# Altium footprint library Connector_Molex.PcbLib: 815 footprints (part 51 of 51)
Each footprint in its own frame and in the unit in brackets; x right, y up, seen from the top. Pads: shape width x height; smd on the part's side, far side on the other; paste and mask are expansions set on the pad; w line width, h text height; cw(c..) or ccw(c..) is an arc to the next point about the centre after c.
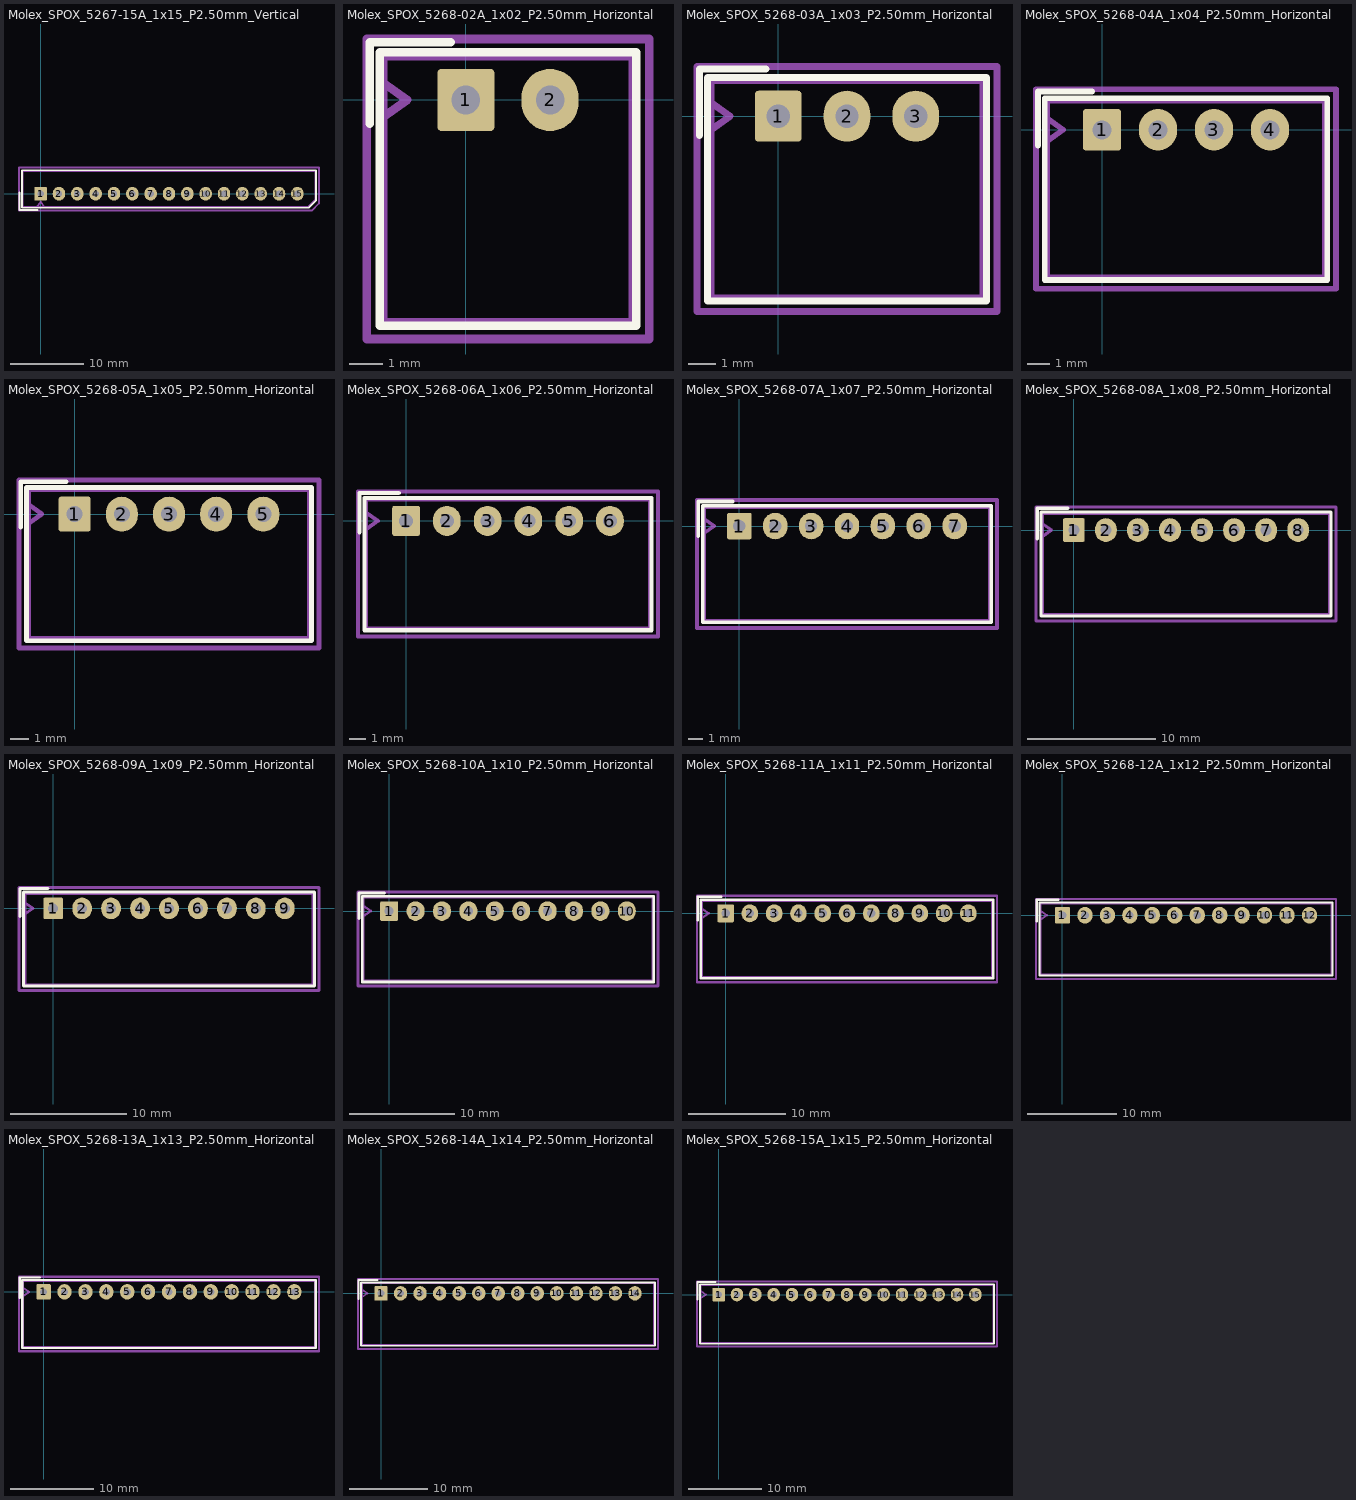
[diagram p50: the footprints below, top view; thin cyan lines are the x and y axes]

## Molex_SPOX_5267-15A_1x15_P2.50mm_Vertical [mm]
pads (15):
  rrect15% 1.7x1.85 hole 0.85: 1(0,0)
  rrect100% 1.7x1.85 hole 0.85: 2(2.5,0) 3(5,0) 4(7.5,0) 5(10,0) 6(12.5,0) 7(15,0) 8(17.5,0) 9(20,0) 10(22.5,0) 11(25,0) 12(27.5,0) 13(30,0) 14(32.5,0) 15(35,0)
F.SilkS:
  lines w0.254: -2.86,0.2 -2.86,-2.21 -0.45,-2.21 ; -2.56,-1.91 36.56,-1.91 37.56,-0.91 37.56,3.21 -2.56,3.21 -2.56,-1.91
Top Assembly:
  lines w0.254: -0.5,-1.8 0,-1.093 0.5,-1.8 ; -2.45,-1.8 36.45,-1.8 37.45,-0.8 37.45,3.1 -2.45,3.1 -2.45,-1.8
  text "'.Designator'" at 13.453,1.56 h1
Top Courtyard:
  lines w0.254: -2.95,-2.31 36.95,-2.31 37.95,-1.31 37.95,3.6 -2.95,3.6 -2.95,-2.31
Top Designator:
  text ".Designator" at 9.882,0.137 h1.52

## Molex_SPOX_5268-02A_1x02_P2.50mm_Horizontal [mm]
pads (2):
  rrect15% 1.7x1.85 hole 0.85: 1(0,0)
  rrect100% 1.7x1.85 hole 0.85: 2(2.5,0)
F.SilkS:
  lines w0.254: -2.86,-0.7 -2.86,1.71 -0.45,1.71 ; -2.56,-6.71 5.06,-6.71 5.06,1.41 -2.56,1.41 -2.56,-6.71
Top Assembly:
  lines w0.254: -2.45,-0.5 -1.743,0 -2.45,0.5 ; -2.45,-6.6 4.95,-6.6 4.95,1.3 -2.45,1.3 -2.45,-6.6
  text "'.Designator'" at -2.797,-6.74 h1
Top Courtyard:
  lines w0.254: -2.95,-7.1 5.45,-7.1 5.45,1.81 -2.95,1.81 -2.95,-7.1
Top Designator:
  text ".Designator" at -6.368,-3.153 h1.52

## Molex_SPOX_5268-03A_1x03_P2.50mm_Horizontal [mm]
pads (3):
  rrect15% 1.7x1.85 hole 0.85: 1(0,0)
  rrect100% 1.7x1.85 hole 0.85: 2(2.5,0) 3(5,0)
F.SilkS:
  lines w0.254: -2.86,-0.7 -2.86,1.71 -0.45,1.71 ; -2.56,-6.71 7.56,-6.71 7.56,1.41 -2.56,1.41 -2.56,-6.71
Top Assembly:
  lines w0.254: -2.45,-0.5 -1.743,0 -2.45,0.5 ; -2.45,-6.6 7.45,-6.6 7.45,1.3 -2.45,1.3 -2.45,-6.6
  text "'.Designator'" at -1.547,-6.74 h1
Top Courtyard:
  lines w0.254: -2.95,-7.1 7.95,-7.1 7.95,1.81 -2.95,1.81 -2.95,-7.1
Top Designator:
  text ".Designator" at -5.118,-3.153 h1.52

## Molex_SPOX_5268-04A_1x04_P2.50mm_Horizontal [mm]
pads (4):
  rrect15% 1.7x1.85 hole 0.85: 1(0,0)
  rrect100% 1.7x1.85 hole 0.85: 2(2.5,0) 3(5,0) 4(7.5,0)
F.SilkS:
  lines w0.254: -2.86,-0.7 -2.86,1.71 -0.45,1.71 ; -2.56,-6.71 10.06,-6.71 10.06,1.41 -2.56,1.41 -2.56,-6.71
Top Assembly:
  lines w0.254: -2.45,-0.5 -1.743,0 -2.45,0.5 ; -2.45,-6.6 9.95,-6.6 9.95,1.3 -2.45,1.3 -2.45,-6.6
  text "'.Designator'" at -0.297,-6.74 h1
Top Courtyard:
  lines w0.254: -2.95,-7.1 10.45,-7.1 10.45,1.81 -2.95,1.81 -2.95,-7.1
Top Designator:
  text ".Designator" at -3.868,-3.153 h1.52

## Molex_SPOX_5268-05A_1x05_P2.50mm_Horizontal [mm]
pads (5):
  rrect15% 1.7x1.85 hole 0.85: 1(0,0)
  rrect100% 1.7x1.85 hole 0.85: 2(2.5,0) 3(5,0) 4(7.5,0) 5(10,0)
F.SilkS:
  lines w0.254: -2.86,-0.7 -2.86,1.71 -0.45,1.71 ; -2.56,-6.71 12.56,-6.71 12.56,1.41 -2.56,1.41 -2.56,-6.71
Top Assembly:
  lines w0.254: -2.45,-0.5 -1.743,0 -2.45,0.5 ; -2.45,-6.6 12.45,-6.6 12.45,1.3 -2.45,1.3 -2.45,-6.6
  text "'.Designator'" at 0.953,-6.74 h1
Top Courtyard:
  lines w0.254: -2.95,-7.1 12.95,-7.1 12.95,1.81 -2.95,1.81 -2.95,-7.1
Top Designator:
  text ".Designator" at -2.618,-3.153 h1.52

## Molex_SPOX_5268-06A_1x06_P2.50mm_Horizontal [mm]
pads (6):
  rrect15% 1.7x1.85 hole 0.85: 1(0,0)
  rrect100% 1.7x1.85 hole 0.85: 2(2.5,0) 3(5,0) 4(7.5,0) 5(10,0) 6(12.5,0)
F.SilkS:
  lines w0.254: -2.86,-0.7 -2.86,1.71 -0.45,1.71 ; -2.56,-6.71 15.06,-6.71 15.06,1.41 -2.56,1.41 -2.56,-6.71
Top Assembly:
  lines w0.254: -2.45,-0.5 -1.743,0 -2.45,0.5 ; -2.45,-6.6 14.95,-6.6 14.95,1.3 -2.45,1.3 -2.45,-6.6
  text "'.Designator'" at 2.203,-6.74 h1
Top Courtyard:
  lines w0.254: -2.95,-7.1 15.45,-7.1 15.45,1.81 -2.95,1.81 -2.95,-7.1
Top Designator:
  text ".Designator" at -1.368,-3.153 h1.52

## Molex_SPOX_5268-07A_1x07_P2.50mm_Horizontal [mm]
pads (7):
  rrect15% 1.7x1.85 hole 0.85: 1(0,0)
  rrect100% 1.7x1.85 hole 0.85: 2(2.5,0) 3(5,0) 4(7.5,0) 5(10,0) 6(12.5,0) 7(15,0)
F.SilkS:
  lines w0.254: -2.86,-0.7 -2.86,1.71 -0.45,1.71 ; -2.56,-6.71 17.56,-6.71 17.56,1.41 -2.56,1.41 -2.56,-6.71
Top Assembly:
  lines w0.254: -2.45,-0.5 -1.743,0 -2.45,0.5 ; -2.45,-6.6 17.45,-6.6 17.45,1.3 -2.45,1.3 -2.45,-6.6
  text "'.Designator'" at 3.453,-6.74 h1
Top Courtyard:
  lines w0.254: -2.95,-7.1 17.95,-7.1 17.95,1.81 -2.95,1.81 -2.95,-7.1
Top Designator:
  text ".Designator" at -0.118,-3.153 h1.52

## Molex_SPOX_5268-08A_1x08_P2.50mm_Horizontal [mm]
pads (8):
  rrect15% 1.7x1.85 hole 0.85: 1(0,0)
  rrect100% 1.7x1.85 hole 0.85: 2(2.5,0) 3(5,0) 4(7.5,0) 5(10,0) 6(12.5,0) 7(15,0) 8(17.5,0)
F.SilkS:
  lines w0.254: -2.86,-0.7 -2.86,1.71 -0.45,1.71 ; -2.56,-6.71 20.06,-6.71 20.06,1.41 -2.56,1.41 -2.56,-6.71
Top Assembly:
  lines w0.254: -2.45,-0.5 -1.743,0 -2.45,0.5 ; -2.45,-6.6 19.95,-6.6 19.95,1.3 -2.45,1.3 -2.45,-6.6
  text "'.Designator'" at 4.703,-6.74 h1
Top Courtyard:
  lines w0.254: -2.95,-7.1 20.45,-7.1 20.45,1.81 -2.95,1.81 -2.95,-7.1
Top Designator:
  text ".Designator" at 1.132,-3.153 h1.52

## Molex_SPOX_5268-09A_1x09_P2.50mm_Horizontal [mm]
pads (9):
  rrect15% 1.7x1.85 hole 0.85: 1(0,0)
  rrect100% 1.7x1.85 hole 0.85: 2(2.5,0) 3(5,0) 4(7.5,0) 5(10,0) 6(12.5,0) 7(15,0) 8(17.5,0) 9(20,0)
F.SilkS:
  lines w0.254: -2.86,-0.7 -2.86,1.71 -0.45,1.71 ; -2.56,-6.71 22.56,-6.71 22.56,1.41 -2.56,1.41 -2.56,-6.71
Top Assembly:
  lines w0.254: -2.45,-0.5 -1.743,0 -2.45,0.5 ; -2.45,-6.6 22.45,-6.6 22.45,1.3 -2.45,1.3 -2.45,-6.6
  text "'.Designator'" at 5.953,-6.74 h1
Top Courtyard:
  lines w0.254: -2.95,-7.1 22.95,-7.1 22.95,1.81 -2.95,1.81 -2.95,-7.1
Top Designator:
  text ".Designator" at 2.382,-3.153 h1.52

## Molex_SPOX_5268-10A_1x10_P2.50mm_Horizontal [mm]
pads (10):
  rrect15% 1.7x1.85 hole 0.85: 1(0,0)
  rrect100% 1.7x1.85 hole 0.85: 2(2.5,0) 3(5,0) 4(7.5,0) 5(10,0) 6(12.5,0) 7(15,0) 8(17.5,0) 9(20,0) 10(22.5,0)
F.SilkS:
  lines w0.254: -2.86,-0.7 -2.86,1.71 -0.45,1.71 ; -2.56,-6.71 25.06,-6.71 25.06,1.41 -2.56,1.41 -2.56,-6.71
Top Assembly:
  lines w0.254: -2.45,-0.5 -1.743,0 -2.45,0.5 ; -2.45,-6.6 24.95,-6.6 24.95,1.3 -2.45,1.3 -2.45,-6.6
  text "'.Designator'" at 7.203,-6.74 h1
Top Courtyard:
  lines w0.254: -2.95,-7.1 25.45,-7.1 25.45,1.81 -2.95,1.81 -2.95,-7.1
Top Designator:
  text ".Designator" at 3.632,-3.153 h1.52

## Molex_SPOX_5268-11A_1x11_P2.50mm_Horizontal [mm]
pads (11):
  rrect15% 1.7x1.85 hole 0.85: 1(0,0)
  rrect100% 1.7x1.85 hole 0.85: 2(2.5,0) 3(5,0) 4(7.5,0) 5(10,0) 6(12.5,0) 7(15,0) 8(17.5,0) 9(20,0) 10(22.5,0) 11(25,0)
F.SilkS:
  lines w0.254: -2.86,-0.7 -2.86,1.71 -0.45,1.71 ; -2.56,-6.71 -2.56,1.41 27.56,1.41 27.56,-6.71 -2.56,-6.71
Top Assembly:
  lines w0.254: -2.45,-0.5 -1.743,0 -2.45,0.5 ; -2.45,-6.6 -2.45,1.3 27.45,1.3 27.45,-6.6 -2.45,-6.6
  text "'.Designator'" at 8.453,-6.74 h1
Top Courtyard:
  lines w0.254: -2.95,-7.1 -2.95,1.81 27.95,1.81 27.95,-7.1 -2.95,-7.1
Top Designator:
  text ".Designator" at 4.882,-3.153 h1.52

## Molex_SPOX_5268-12A_1x12_P2.50mm_Horizontal [mm]
pads (12):
  rrect15% 1.7x1.85 hole 0.85: 1(0,0)
  rrect100% 1.7x1.85 hole 0.85: 2(2.5,0) 3(5,0) 4(7.5,0) 5(10,0) 6(12.5,0) 7(15,0) 8(17.5,0) 9(20,0) 10(22.5,0) 11(25,0) 12(27.5,0)
F.SilkS:
  lines w0.254: -2.86,-0.7 -2.86,1.71 -0.45,1.71 ; -2.56,-6.71 30.06,-6.71 30.06,1.41 -2.56,1.41 -2.56,-6.71
Top Assembly:
  lines w0.254: -2.45,-0.5 -1.743,0 -2.45,0.5 ; -2.45,-6.6 29.95,-6.6 29.95,1.3 -2.45,1.3 -2.45,-6.6
  text "'.Designator'" at 9.703,-6.74 h1
Top Courtyard:
  lines w0.254: -2.95,-7.1 30.45,-7.1 30.45,1.81 -2.95,1.81 -2.95,-7.1
Top Designator:
  text ".Designator" at 6.132,-3.153 h1.52

## Molex_SPOX_5268-13A_1x13_P2.50mm_Horizontal [mm]
pads (13):
  rrect15% 1.7x1.85 hole 0.85: 1(0,0)
  rrect100% 1.7x1.85 hole 0.85: 2(2.5,0) 3(5,0) 4(7.5,0) 5(10,0) 6(12.5,0) 7(15,0) 8(17.5,0) 9(20,0) 10(22.5,0) 11(25,0) 12(27.5,0) 13(30,0)
F.SilkS:
  lines w0.254: -2.86,-0.7 -2.86,1.71 -0.45,1.71 ; -2.56,-6.71 32.56,-6.71 32.56,1.41 -2.56,1.41 -2.56,-6.71
Top Assembly:
  lines w0.254: -2.45,-0.5 -1.743,0 -2.45,0.5 ; -2.45,-6.6 32.45,-6.6 32.45,1.3 -2.45,1.3 -2.45,-6.6
  text "'.Designator'" at 10.953,-6.74 h1
Top Courtyard:
  lines w0.254: -2.95,-7.1 32.95,-7.1 32.95,1.81 -2.95,1.81 -2.95,-7.1
Top Designator:
  text ".Designator" at 7.382,-3.153 h1.52

## Molex_SPOX_5268-14A_1x14_P2.50mm_Horizontal [mm]
pads (14):
  rrect15% 1.7x1.85 hole 0.85: 1(0,0)
  rrect100% 1.7x1.85 hole 0.85: 2(2.5,0) 3(5,0) 4(7.5,0) 5(10,0) 6(12.5,0) 7(15,0) 8(17.5,0) 9(20,0) 10(22.5,0) 11(25,0) 12(27.5,0) 13(30,0) 14(32.5,0)
F.SilkS:
  lines w0.254: -2.86,-0.7 -2.86,1.71 -0.45,1.71 ; -2.56,-6.71 35.06,-6.71 35.06,1.41 -2.56,1.41 -2.56,-6.71
Top Assembly:
  lines w0.254: -2.45,-0.5 -1.743,0 -2.45,0.5 ; -2.45,-6.6 34.95,-6.6 34.95,1.3 -2.45,1.3 -2.45,-6.6
  text "'.Designator'" at 12.203,-6.74 h1
Top Courtyard:
  lines w0.254: -2.95,-7.1 35.45,-7.1 35.45,1.81 -2.95,1.81 -2.95,-7.1
Top Designator:
  text ".Designator" at 8.632,-3.153 h1.52

## Molex_SPOX_5268-15A_1x15_P2.50mm_Horizontal [mm]
pads (15):
  rrect15% 1.7x1.85 hole 0.85: 1(0,0)
  rrect100% 1.7x1.85 hole 0.85: 2(2.5,0) 3(5,0) 4(7.5,0) 5(10,0) 6(12.5,0) 7(15,0) 8(17.5,0) 9(20,0) 10(22.5,0) 11(25,0) 12(27.5,0) 13(30,0) 14(32.5,0) 15(35,0)
F.SilkS:
  lines w0.254: -2.86,-0.7 -2.86,1.71 -0.45,1.71 ; -2.56,-6.71 37.56,-6.71 37.56,1.41 -2.56,1.41 -2.56,-6.71
Top Assembly:
  lines w0.254: -2.45,-0.5 -1.743,0 -2.45,0.5 ; -2.45,-6.6 37.45,-6.6 37.45,1.3 -2.45,1.3 -2.45,-6.6
  text "'.Designator'" at 13.453,-6.74 h1
Top Courtyard:
  lines w0.254: -2.95,-7.1 37.95,-7.1 37.95,1.81 -2.95,1.81 -2.95,-7.1
Top Designator:
  text ".Designator" at 9.882,-3.153 h1.52